# Altium integrated library TI Power Management Step-Down Regulator.IntLib: 531 symbols (part 13 of 32)
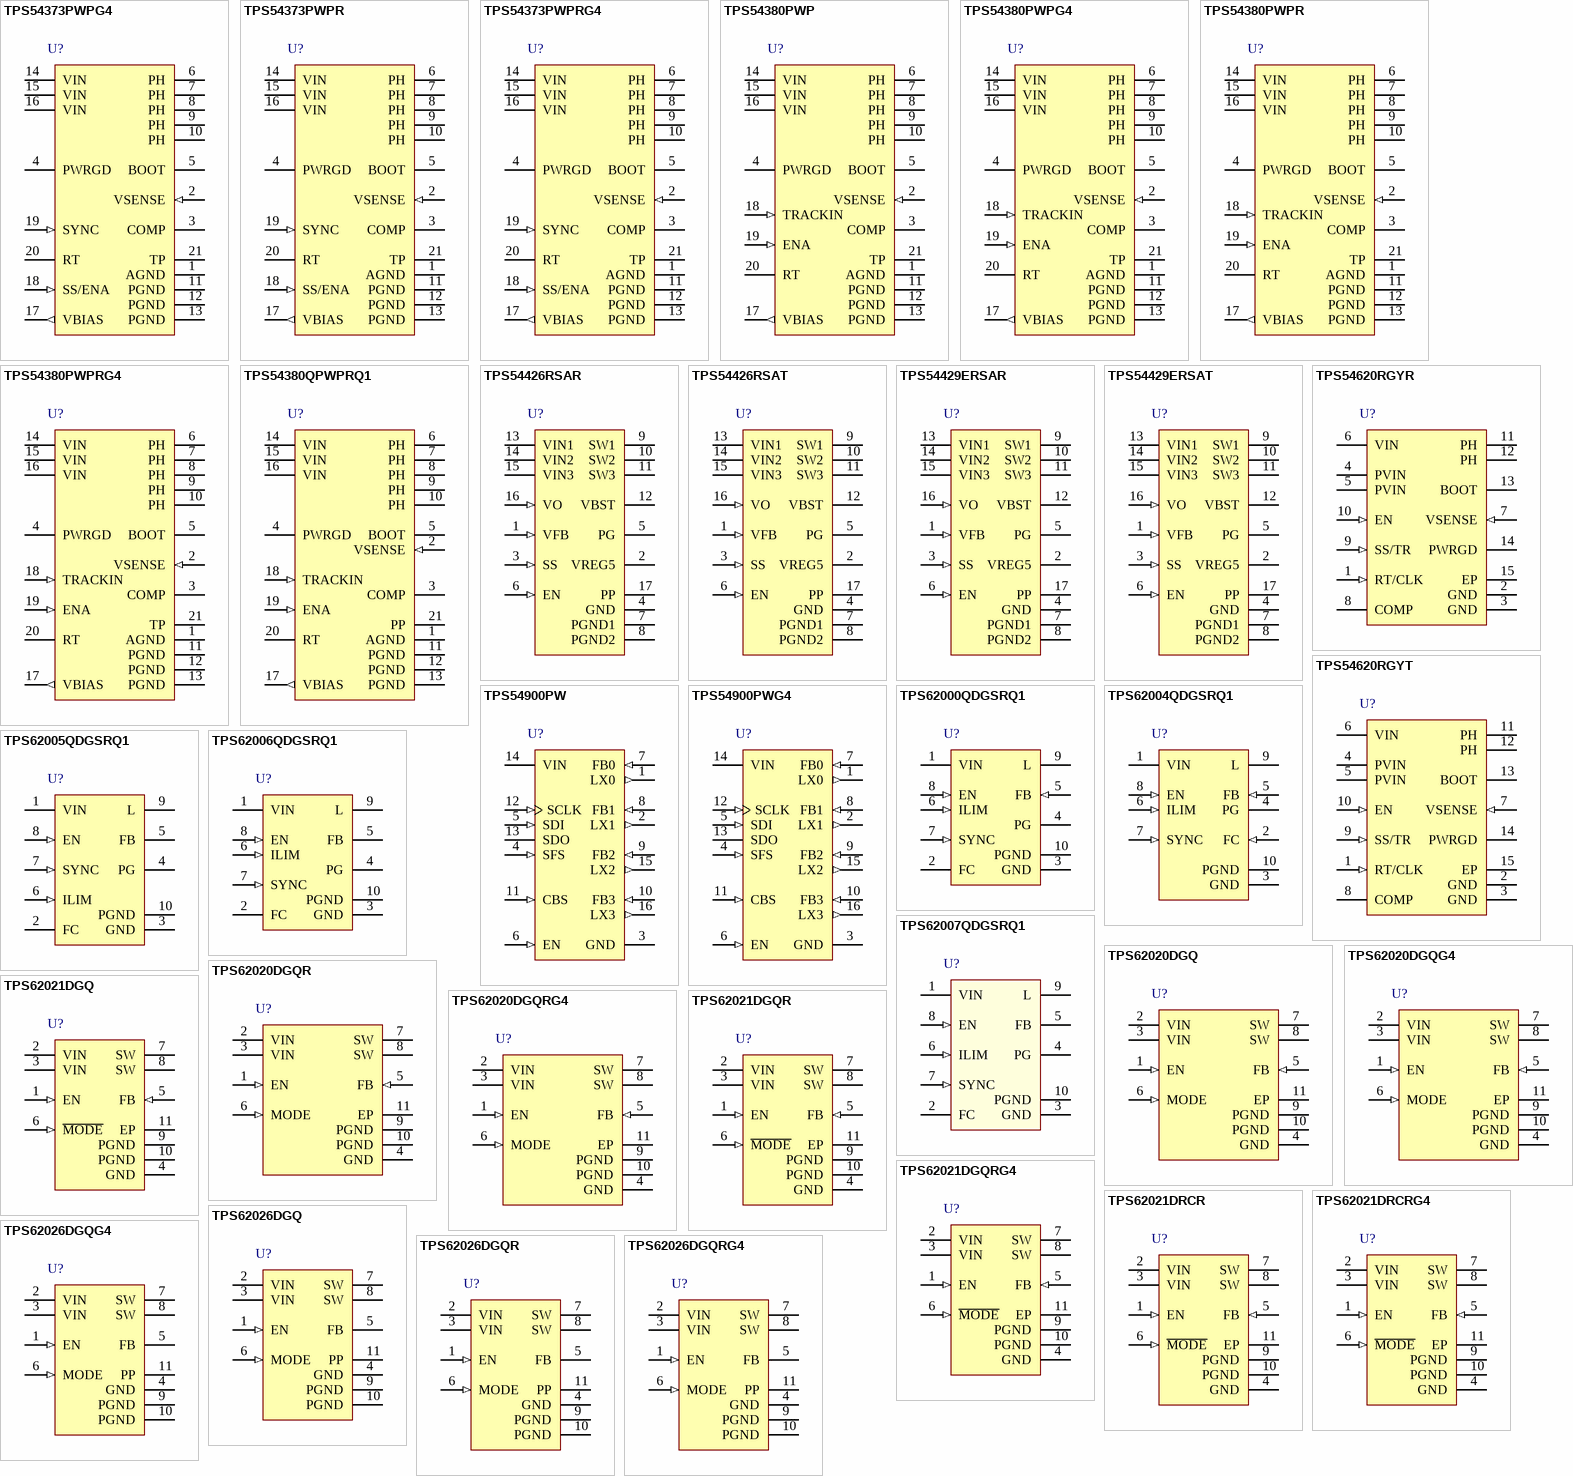
[diagram p30: symbols TPS54373PWPG4 to TPS62026DGQRG4]

## TPS62020DGQR
designator U?
Buck Adjustable Regulator with 2.5 to 6 V Input and 0.7 to 6 V Output, -40 to 85 degC, 10-Pin MSOP-PowerPAD (DGQ), Green (RoHS & no Sb/Br); PartNumber: TPS62020DGQR; Manufacturer: Texas Instruments; Duty Cycle(Max)(%): 100; Iout(Max)(A): 0.6; Iq(Typ)(mA): 0.018; Rating: Catalog; Regulated Outputs(#): 1; SubFamily: Step-Down Regulator; Switch Current Limit(Typ)(A): 1.15; Vin(Max)(V): 6; Vin(Min)(V): 2.5; Vout(Min)(V): 0.7; DatasheetVersion: SLVS076C; PackageVersion: revF, Nov-2011; PackageReference: DGQ10-1675X1445TP; PackageDescription: 10-Pin PowerPAD Plastic Small Outline 0.5 mm Pitch, Exposed Pad; Supplier 1: Arrow; Supplier Part Number 1: 39720110S7308815N7713; Supplier 2: Digi-Key; Supplier Part Number 2: 296-15250-2-ND; Supplier 3: Digi-Key; Supplier Part Number 3: 296-15250-1-ND; Supplier 4: Digi-Key; Supplier Part Number 4: 296-15250-6-ND; Supplier 5: Mouser; Supplier Part Number 5: 595-TPS62020DGQR; Eco-Plan: Green (RoHS & no Sb/Br); Topology: Buck; Vout(Max)(V): 6; Mounting Technology: Surface Mount; Code_JEDEC: MO-187-BA-T; ComponentLink1Description: Datasheet; ComponentLink1URL: http://www.ti.com/general/docs/lit/getliterature.tsp?genericPartNumber=TPS62020&fileType=pdf; ComponentLink2Description: URL Link1; ComponentLink2URL: Samples URL:http://www.ti.com/product/tps62020#samples
footprint DGQ10-1675X1445TP_N (TSSOP, 10-Leads, Body 3x3mm, Pitch 0.5mm, Thermal Pad 1.88x1.57mm, IPC Medium Density)
footprint DGQ10-1675X1445TP_L (TSSOP, 10-Leads, Body 3x3mm, Pitch 0.5mm, Thermal Pad 1.88x1.57mm, IPC High Density)
footprint DGQ10-1675X1445TP_M (TSSOP, 10-Leads, Body 3x3mm, Pitch 0.5mm, Thermal Pad 1.88x1.57mm, IPC Low Density)
pins: 1 EN (in) "Enable. Pulling EN to ground forces the device into shutdown mode. Pulling EN to VI enables the device. EN should not be left floating and must be terminated.", 2 VIN (power) "Supply voltage input", 3 VIN (power) "Supply voltage input", 4 GND (power) "Analog ground", 5 FB (in) "Feedback. Connect an external resistor divider to this pin. If a fixed-output-voltage device is ued, connect FB directly to the output.", 6 MODE (in) "The difference between TPS6202x and TPS62021 is the logic level of the MODE pin. The TPS62021 has an active-low MODE pin. The TPS6202x is forced into fixed-frequency PWM mode by pulling the MODE pin high. Pulling the MODE (See Datasheet)", 7 SW (power) "This is the switch pin of the converter and connected to the drain of the internal power MOSFETs", 8 SW (power) "This is the switch pin of the converter and connected to the drain of the internal power MOSFETs", 9 PGND (power) "Power ground", 10 PGND (power) "Power ground", 11 EP (power) "Exposed Thermal Pad"

## TPS62020DGQRG4
designator U?
Buck Adjustable Regulator with 2.5 to 6 V Input and 0.7 to 6 V Output, -40 to 85 degC, 10-Pin MSOP-PowerPAD (DGQ), Green (RoHS & no Sb/Br); PartNumber: TPS62020DGQRG4; Manufacturer: Texas Instruments; Duty Cycle(Max)(%): 100; Iout(Max)(A): 0.6; Iq(Typ)(mA): 0.018; Rating: Catalog; Regulated Outputs(#): 1; SubFamily: Step-Down Regulator; Switch Current Limit(Typ)(A): 1.15; Vin(Max)(V): 6; Vin(Min)(V): 2.5; Vout(Min)(V): 0.7; DatasheetVersion: SLVS076C; PackageVersion: revF, Nov-2011; PackageReference: DGQ10-1675X1445TP; PackageDescription: 10-Pin PowerPAD Plastic Small Outline 0.5 mm Pitch, Exposed Pad; Supplier 1: Digi-Key; Supplier Part Number 1: TPS62020DGQRG4-ND; Supplier 2: Newark; Supplier Part Number 2: 65J6916; Supplier 3: Mouser; Supplier Part Number 3: 595-TPS62020DGQRG4; Eco-Plan: Green (RoHS & no Sb/Br); Topology: Buck; Vout(Max)(V): 6; Mounting Technology: Surface Mount; Code_JEDEC: MO-187-BA-T; ComponentLink1Description: Datasheet; ComponentLink1URL: http://www.ti.com/general/docs/lit/getliterature.tsp?genericPartNumber=TPS62020&fileType=pdf; ComponentLink2Description: URL Link1; ComponentLink2URL: Samples URL:http://www.ti.com/product/tps62020#samples
footprint DGQ10-1675X1445TP_N (TSSOP, 10-Leads, Body 3x3mm, Pitch 0.5mm, Thermal Pad 1.88x1.57mm, IPC Medium Density)
footprint DGQ10-1675X1445TP_L (TSSOP, 10-Leads, Body 3x3mm, Pitch 0.5mm, Thermal Pad 1.88x1.57mm, IPC High Density)
footprint DGQ10-1675X1445TP_M (TSSOP, 10-Leads, Body 3x3mm, Pitch 0.5mm, Thermal Pad 1.88x1.57mm, IPC Low Density)
pins: 1 EN (in) "Enable. Pulling EN to ground forces the device into shutdown mode. Pulling EN to VI enables the device. EN should not be left floating and must be terminated.", 2 VIN (power) "Supply voltage input", 3 VIN (power) "Supply voltage input", 4 GND (power) "Analog ground", 5 FB (in) "Feedback. Connect an external resistor divider to this pin. If a fixed-output-voltage device is ued, connect FB directly to the output.", 6 MODE (in) "The difference between TPS6202x and TPS62021 is the logic level of the MODE pin. The TPS62021 has an active-low MODE pin. The TPS6202x is forced into fixed-frequency PWM mode by pulling the MODE pin high. Pulling the MODE (See Datasheet)", 7 SW (power) "This is the switch pin of the converter and connected to the drain of the internal power MOSFETs", 8 SW (power) "This is the switch pin of the converter and connected to the drain of the internal power MOSFETs", 9 PGND (power) "Power ground", 10 PGND (power) "Power ground", 11 EP (power) "Exposed Thermal Pad"

## TPS62021DGQ
designator U?
Buck Adjustable Regulator with 2.5 to 6 V Input and 0.7 to 6 V Output, -40 to 85 degC, 10-Pin MSOP-PowerPAD (DGQ); PartNumber: TPS62021DGQ; Manufacturer: Texas Instruments; Duty Cycle(Max)(%): 100; Iout(Max)(A): 0.6; Iq(Typ)(mA): 0.018; Rating: Catalog; Regulated Outputs(#): 1; SubFamily: Step-Down Regulator; Switch Current Limit(Typ)(A): 1.15; Synchronous Rectification: TRUE; Vin(Max)(V): 6; Vin(Min)(V): 2.5; Vout(Min)(V): 0.7; DatasheetVersion: SLVS076C; PackageVersion: revF, Nov-2011; PackageReference: DGQ10-1675X1445TP; PackageDescription: 10-Pin PowerPAD Plastic Small Outline 0.5 mm Pitch, Exposed Pad; Supplier 1: Mouser; Supplier Part Number 1: N/A; Topology: Buck; Vout(Max)(V): 6; Mounting Technology: Surface Mount; Code_JEDEC: MO-187-BA-T; ComponentLink1Description: Datasheet; ComponentLink1URL: http://www.ti.com/general/docs/lit/getliterature.tsp?genericPartNumber=TPS62021&fileType=pdf; ComponentLink2Description: URL Link1; ComponentLink2URL: Samples URL:http://www.ti.com/product/tps62021#samples
footprint DGQ10-1675X1445TP_N (TSSOP, 10-Leads, Body 3x3mm, Pitch 0.5mm, Thermal Pad 1.88x1.57mm, IPC Medium Density)
footprint DGQ10-1675X1445TP_L (TSSOP, 10-Leads, Body 3x3mm, Pitch 0.5mm, Thermal Pad 1.88x1.57mm, IPC High Density)
footprint DGQ10-1675X1445TP_M (TSSOP, 10-Leads, Body 3x3mm, Pitch 0.5mm, Thermal Pad 1.88x1.57mm, IPC Low Density)
pins: 1 EN (in) "Enable. Pulling EN to ground forces the device into shutdown mode. Pulling EN to VI enables the device. EN should not be left floating and must be terminated.", 2 VIN (power) "Supply voltage input", 3 VIN (power) "Supply voltage input", 4 GND (power) "Analog ground", 5 FB (in) "Feedback. Connect an external resistor divider to this pin.If a fixed-output-voltage device is ued, connect FB directly to the output.", 6 ~{MODE} (in) "The difference between TPS6202x and TPS62021 is the logic level of the MODE pin. The TPS62021 has an active-low M\O\D\E\ pin. The TPS6202x is forced into fixed-frequency PWM mode by pulling the MODE pin high.Pulling the MODE (See Datasheet)", 7 SW (power) "This is the switch pin of the converter and connected to the drain of the internal power MOSFETs", 8 SW (power) "This is the switch pin of the converter and connected to the drain of the internal power MOSFETs", 9 PGND (power) "Power ground", 10 PGND (power) "Power ground", 11 EP (power) "Exposed Thermal Pad"

## TPS62021DGQR
designator U?
Buck Adjustable Regulator with 2.5 to 6 V Input and 0.7 to 6 V Output, -40 to 85 degC, 10-Pin MSOP-PowerPAD (DGQ); PartNumber: TPS62021DGQR; Manufacturer: Texas Instruments; Duty Cycle(Max)(%): 100; Iout(Max)(A): 0.6; Iq(Typ)(mA): 0.018; Rating: Catalog; Regulated Outputs(#): 1; SubFamily: Step-Down Regulator; Switch Current Limit(Typ)(A): 1.15; Synchronous Rectification: TRUE; Vin(Max)(V): 6; Vin(Min)(V): 2.5; Vout(Min)(V): 0.7; DatasheetVersion: SLVS076C; PackageVersion: revF, Nov-2011; PackageReference: DGQ10-1675X1445TP; PackageDescription: 10-Pin PowerPAD Plastic Small Outline 0.5 mm Pitch, Exposed Pad; Supplier 1: Digi-Key; Supplier Part Number 1: 296-17179-2-ND; Supplier 2: Digi-Key; Supplier Part Number 2: 296-17179-1-ND; Supplier 3: Digi-Key; Supplier Part Number 3: 296-17179-6-ND; Supplier 4: Newark; Supplier Part Number 4: 21J9233; Supplier 5: Mouser; Supplier Part Number 5: 595-TPS62021DGQR; Topology: Buck; Vout(Max)(V): 6; Mounting Technology: Surface Mount; Code_JEDEC: MO-187-BA-T; ComponentLink1Description: Datasheet; ComponentLink1URL: http://www.ti.com/general/docs/lit/getliterature.tsp?genericPartNumber=TPS62021&fileType=pdf; ComponentLink2Description: URL Link1; ComponentLink2URL: Samples URL:http://www.ti.com/product/tps62021#samples
footprint DGQ10-1675X1445TP_N (TSSOP, 10-Leads, Body 3x3mm, Pitch 0.5mm, Thermal Pad 1.88x1.57mm, IPC Medium Density)
footprint DGQ10-1675X1445TP_L (TSSOP, 10-Leads, Body 3x3mm, Pitch 0.5mm, Thermal Pad 1.88x1.57mm, IPC High Density)
footprint DGQ10-1675X1445TP_M (TSSOP, 10-Leads, Body 3x3mm, Pitch 0.5mm, Thermal Pad 1.88x1.57mm, IPC Low Density)
pins: 1 EN (in) "Enable. Pulling EN to ground forces the device into shutdown mode. Pulling EN to VI enables the device. EN should not be left floating and must be terminated.", 2 VIN (power) "Supply voltage input", 3 VIN (power) "Supply voltage input", 4 GND (power) "Analog ground", 5 FB (in) "Feedback. Connect an external resistor divider to this pin.If a fixed-output-voltage device is ued, connect FB directly to the output.", 6 ~{MODE} (in) "The difference between TPS6202x and TPS62021 is the logic level of the MODE pin. The TPS62021 has an active-low M\O\D\E\ pin. The TPS6202x is forced into fixed-frequency PWM mode by pulling the MODE pin high.Pulling the MODE (See Datasheet)", 7 SW (power) "This is the switch pin of the converter and connected to the drain of the internal power MOSFETs", 8 SW (power) "This is the switch pin of the converter and connected to the drain of the internal power MOSFETs", 9 PGND (power) "Power ground", 10 PGND (power) "Power ground", 11 EP (power) "Exposed Thermal Pad"

## TPS62021DGQRG4
designator U?
Buck Adjustable Regulator with 2.5 to 6 V Input and 0.7 to 6 V Output, -40 to 85 degC, 10-Pin MSOP-PowerPAD (DGQ); PartNumber: TPS62021DGQRG4; Manufacturer: Texas Instruments; Duty Cycle(Max)(%): 100; Iout(Max)(A): 0.6; Iq(Typ)(mA): 0.018; Rating: Catalog; Regulated Outputs(#): 1; SubFamily: Step-Down Regulator; Switch Current Limit(Typ)(A): 1.15; Synchronous Rectification: TRUE; Vin(Max)(V): 6; Vin(Min)(V): 2.5; Vout(Min)(V): 0.7; DatasheetVersion: SLVS076C; PackageVersion: revF, Nov-2011; PackageReference: DGQ10-1675X1445TP; PackageDescription: 10-Pin PowerPAD Plastic Small Outline 0.5 mm Pitch, Exposed Pad; Supplier 1: Digi-Key; Supplier Part Number 1: TPS62021DGQRG4-ND; Supplier 2: Newark; Supplier Part Number 2: 99K4414; Supplier 3: Mouser; Supplier Part Number 3: 595-TPS62021DGQRG4; Topology: Buck; Vout(Max)(V): 6; Mounting Technology: Surface Mount; Code_JEDEC: MO-187-BA-T; ComponentLink1Description: Datasheet; ComponentLink1URL: http://www.ti.com/general/docs/lit/getliterature.tsp?genericPartNumber=TPS62021&fileType=pdf; ComponentLink2Description: URL Link1; ComponentLink2URL: Samples URL:http://www.ti.com/product/tps62021#samples
footprint DGQ10-1675X1445TP_N (TSSOP, 10-Leads, Body 3x3mm, Pitch 0.5mm, Thermal Pad 1.88x1.57mm, IPC Medium Density)
footprint DGQ10-1675X1445TP_L (TSSOP, 10-Leads, Body 3x3mm, Pitch 0.5mm, Thermal Pad 1.88x1.57mm, IPC High Density)
footprint DGQ10-1675X1445TP_M (TSSOP, 10-Leads, Body 3x3mm, Pitch 0.5mm, Thermal Pad 1.88x1.57mm, IPC Low Density)
pins: 1 EN (in) "Enable. Pulling EN to ground forces the device into shutdown mode. Pulling EN to VI enables the device. EN should not be left floating and must be terminated.", 2 VIN (power) "Supply voltage input", 3 VIN (power) "Supply voltage input", 4 GND (power) "Analog ground", 5 FB (in) "Feedback. Connect an external resistor divider to this pin.If a fixed-output-voltage device is ued, connect FB directly to the output.", 6 ~{MODE} (in) "The difference between TPS6202x and TPS62021 is the logic level of the MODE pin. The TPS62021 has an active-low M\O\D\E\ pin. The TPS6202x is forced into fixed-frequency PWM mode by pulling the MODE pin high.Pulling the MODE (See Datasheet)", 7 SW (power) "This is the switch pin of the converter and connected to the drain of the internal power MOSFETs", 8 SW (power) "This is the switch pin of the converter and connected to the drain of the internal power MOSFETs", 9 PGND (power) "Power ground", 10 PGND (power) "Power ground", 11 EP (power) "Exposed Thermal Pad"

## TPS62021DRCR
designator U?
Buck Adjustable Regulator with 2.5 to 6 V Input and 0.7 to 6 V Output, -40 to 85 degC, 10-Pin SON (DRC), Green (RoHS & no Sb/Br); PartNumber: TPS62021DRCR; Manufacturer: Texas Instruments; Duty Cycle(Max)(%): 100; Iout(Max)(A): 0.6; Iq(Typ)(mA): 0.018; Rating: Catalog; Regulated Outputs(#): 1; SubFamily: Step-Down Regulator; Switch Current Limit(Typ)(A): 1.15; Synchronous Rectification: TRUE; Vin(Max)(V): 6; Vin(Min)(V): 2.5; Vout(Min)(V): 0.7; DatasheetVersion: SLVS076C; PackageVersion: revL, Sep-2011; PackageReference: DRC10-2400X1650TP; PackageDescription: 10-Pin Plastic Small Outline No-Lead, 3 x 3 x 1 mm Body, 0.5 mm Pitch, Exposed Pad; Supplier 1: Digi-Key; Supplier Part Number 1: 296-17180-2-ND; Supplier 2: Digi-Key; Supplier Part Number 2: 296-17180-1-ND; Supplier 3: Digi-Key; Supplier Part Number 3: 296-17180-6-ND; Supplier 4: Newark; Supplier Part Number 4: 21J9234; Supplier 5: Mouser; Supplier Part Number 5: 595-TPS62021DRCR; Eco-Plan: Green (RoHS & no Sb/Br); Topology: Buck; Vout(Max)(V): 6; Mounting Technology: Surface Mount; ComponentLink1Description: Datasheet; ComponentLink1URL: http://www.ti.com/general/docs/lit/getliterature.tsp?genericPartNumber=TPS62021&fileType=pdf; ComponentLink2Description: URL Link1; ComponentLink2URL: Samples URL:http://www.ti.com/product/tps62021#samples
footprint DRC10-2400X1650TP (SON, 10-Leads, Body 3x3mm, Pitch 0.5mm, Thermal Pad 2.4x1.65mm, TI Recommended)
pins: 1 EN (in) "Enable. Pulling EN to ground forces the device into shutdown mode. Pulling EN to VI enables the device. EN should not be left floating and must be terminated.", 2 VIN (power) "Supply voltage input", 3 VIN (power) "Supply voltage input", 4 GND (power) "Analog ground", 5 FB (in) "Feedback. Connect an external resistor divider to this pin.If a fixed-output-voltage device is ued, connect FB directly to the output.", 6 ~{MODE} (in) "The difference between TPS6202x and TPS62021 is the logic level of the MODE pin. The TPS62021 has an active-low M\O\D\E\ pin. The TPS6202x is forced into fixed-frequency PWM mode by pulling the MODE pin high.Pulling the MODE (See Datasheet)", 7 SW (power) "This is the switch pin of the converter and connected to the drain of the internal power MOSFETs", 8 SW (power) "This is the switch pin of the converter and connected to the drain of the internal power MOSFETs", 9 PGND (power) "Power ground", 10 PGND (power) "Power ground", 11 EP (power) "Exposed Thermal Pad"

## TPS62021DRCRG4
designator U?
Buck Adjustable Regulator with 2.5 to 6 V Input and 0.7 to 6 V Output, -40 to 85 degC, 10-Pin SON (DRC), Green (RoHS & no Sb/Br); PartNumber: TPS62021DRCRG4; Manufacturer: Texas Instruments; Duty Cycle(Max)(%): 100; Iout(Max)(A): 0.6; Iq(Typ)(mA): 0.018; Rating: Catalog; Regulated Outputs(#): 1; SubFamily: Step-Down Regulator; Switch Current Limit(Typ)(A): 1.15; Synchronous Rectification: TRUE; Vin(Max)(V): 6; Vin(Min)(V): 2.5; Vout(Min)(V): 0.7; DatasheetVersion: SLVS076C; PackageVersion: revL, Sep-2011; PackageReference: DRC10-2400X1650TP; PackageDescription: 10-Pin Plastic Small Outline No-Lead, 3 x 3 x 1 mm Body, 0.5 mm Pitch, Exposed Pad; Supplier 1: Digi-Key; Supplier Part Number 1: TPS62021DRCRG4-ND; Supplier 2: Newark; Supplier Part Number 2: 71J8196; Supplier 3: Mouser; Supplier Part Number 3: 595-TPS62021DRCRG4; Eco-Plan: Green (RoHS & no Sb/Br); Topology: Buck; Vout(Max)(V): 6; Mounting Technology: Surface Mount; ComponentLink1Description: Datasheet; ComponentLink1URL: http://www.ti.com/general/docs/lit/getliterature.tsp?genericPartNumber=TPS62021&fileType=pdf; ComponentLink2Description: URL Link1; ComponentLink2URL: Samples URL:http://www.ti.com/product/tps54611#samples
footprint DRC10-2400X1650TP (SON, 10-Leads, Body 3x3mm, Pitch 0.5mm, Thermal Pad 2.4x1.65mm, TI Recommended)
pins: 1 EN (in) "Enable. Pulling EN to ground forces the device into shutdown mode. Pulling EN to VI enables the device. EN should not be left floating and must be terminated.", 2 VIN (power) "Supply voltage input", 3 VIN (power) "Supply voltage input", 4 GND (power) "Analog ground", 5 FB (in) "Feedback. Connect an external resistor divider to this pin.If a fixed-output-voltage device is ued, connect FB directly to the output.", 6 ~{MODE} (in) "The difference between TPS6202x and TPS62021 is the logic level of the MODE pin. The TPS62021 has an active-low M\O\D\E\ pin. The TPS6202x is forced into fixed-frequency PWM mode by pulling the MODE pin high.Pulling the MODE (See Datasheet)", 7 SW (power) "This is the switch pin of the converter and connected to the drain of the internal power MOSFETs", 8 SW (power) "This is the switch pin of the converter and connected to the drain of the internal power MOSFETs", 9 PGND (power) "Power ground", 10 PGND (power) "Power ground", 11 EP (power) "Exposed Thermal Pad"

## TPS62026DGQ
designator U?
Buck Step Down Regulator with 2.5 to 6 V Input and 3.3 V Output, -40 to 85 degC, 10-Pin MSOP-PowerPAD (DGQ), Green (RoHS & no Sb/Br); PartNumber: TPS62026DGQ; Manufacturer: Texas Instruments; Duty Cycle(Max)(%): 100; Iout(Max)(A): 0.6; Iq(Typ)(mA): 0.018; Preset Vout(V): 3.3; Rating: Catalog; Regulated Outputs(#): 1; SubFamily: Step-Down Regulator; Switch Current Limit(Typ)(A): 1.25; Synchronous Rectification: TRUE; Vin(Max)(V): 6; Vin(Min)(V): 2.5; DatasheetVersion: SLVS076C; PackageVersion: revF, Nov-2011; PackageReference: DGQ10-1675X1445TP; PackageDescription: 10-Pin PowerPAD Plastic Small Outline 0.5 mm Pitch, Exposed Pad; Supplier 1: Digi-Key; Supplier Part Number 1: 296-34633-5-ND; Supplier 2: Farnell; Supplier Part Number 2: 1412545; Supplier 3: Newark; Supplier Part Number 3: 73J8387; Supplier 4: Mouser; Supplier Part Number 4: 595-TPS62026DGQ; Eco-Plan: Green (RoHS & no Sb/Br); Topology: Buck; Vout(Max)(V): 3.3; Vout(Min)(V): 3.3; Mounting Technology: Surface Mount; Code_JEDEC: MO-187-BA-T; ComponentLink1Description: Datasheet; ComponentLink1URL: http://www.ti.com/general/docs/lit/getliterature.tsp?genericPartNumber=TPS62026&fileType=pdf; ComponentLink2Description: URL Link1; ComponentLink2URL: Samples URL:http://www.ti.com/product/tps62026#samples
footprint DGQ10-1675X1445TP_N (TSSOP, 10-Leads, Body 3x3mm, Pitch 0.5mm, Thermal Pad 1.88x1.57mm, IPC Medium Density)
footprint DGQ10-1675X1445TP_L (TSSOP, 10-Leads, Body 3x3mm, Pitch 0.5mm, Thermal Pad 1.88x1.57mm, IPC High Density)
footprint DGQ10-1675X1445TP_M (TSSOP, 10-Leads, Body 3x3mm, Pitch 0.5mm, Thermal Pad 1.88x1.57mm, IPC Low Density)
pins: 1 EN (in) "Enable. Pulling EN to ground forces the device into shutdown mode. Pulling EN to VI enables the device. EN should not be left floating and must be terminated.", 2 VIN (power) "Supply voltage input", 3 VIN (power) "Supply voltage input", 4 GND (power) "Analog ground", 5 FB "Feedback. Connect an external resistor divider to this pin. If a fixed-output-voltage device is ued, connect FB directly to the output.", 6 MODE (in) "The difference between TPS6202x and TPS62021 is the logic level of the MODE pin. The TPS62021 has an active-low MODE pin. The TPS6202x is forced into fixed-frequency PWM mode by pulling the MODE pin high. Pulling the MODE (See Datasheet)", 7 SW (power) "This is the switch pin of the converter and connected to the drain of the internal power MOSFETs", 8 SW (power) "This is the switch pin of the converter and connected to the drain of the internal power MOSFETs", 9 PGND (power) "Power ground", 10 PGND (power) "Power ground", 11 PP (power) "Exposed Thermal Pad"

## TPS62026DGQG4
designator U?
Buck Step Down Regulator with 2.5 to 6 V Input and 3.3 V Output, -40 to 85 degC, 10-Pin MSOP-PowerPAD (DGQ), Green (RoHS & no Sb/Br); PartNumber: TPS62026DGQG4; Manufacturer: Texas Instruments; Duty Cycle(Max)(%): 100; Iout(Max)(A): 0.6; Iq(Typ)(mA): 0.018; Preset Vout(V): 3.3; Rating: Catalog; Regulated Outputs(#): 1; SubFamily: Step-Down Regulator; Switch Current Limit(Typ)(A): 1.25; Synchronous Rectification: TRUE; Vin(Max)(V): 6; Vin(Min)(V): 2.5; DatasheetVersion: SLVS076C; PackageVersion: revF, Nov-2011; PackageReference: DGQ10-1675X1445TP; PackageDescription: 10-Pin PowerPAD Plastic Small Outline 0.5 mm Pitch, Exposed Pad; Supplier 1: Digi-Key; Supplier Part Number 1: TPS62026DGQG4-ND; Supplier 2: Newark; Supplier Part Number 2: 24K6032; Supplier 3: Mouser; Supplier Part Number 3: 595-TPS62026DGQG4; Eco-Plan: Green (RoHS & no Sb/Br); Topology: Buck; Vout(Max)(V): 3.3; Vout(Min)(V): 3.3; Mounting Technology: Surface Mount; Code_JEDEC: MO-187-BA-T; ComponentLink1Description: Datasheet; ComponentLink1URL: http://www.ti.com/general/docs/lit/getliterature.tsp?genericPartNumber=TPS62026&fileType=pdf; ComponentLink2Description: URL Link1; ComponentLink2URL: Samples URL:http://www.ti.com/product/tps62026#samples
footprint DGQ10-1675X1445TP_N (TSSOP, 10-Leads, Body 3x3mm, Pitch 0.5mm, Thermal Pad 1.88x1.57mm, IPC Medium Density)
footprint DGQ10-1675X1445TP_L (TSSOP, 10-Leads, Body 3x3mm, Pitch 0.5mm, Thermal Pad 1.88x1.57mm, IPC High Density)
footprint DGQ10-1675X1445TP_M (TSSOP, 10-Leads, Body 3x3mm, Pitch 0.5mm, Thermal Pad 1.88x1.57mm, IPC Low Density)
pins: 1 EN (in) "Enable. Pulling EN to ground forces the device into shutdown mode. Pulling EN to VI enables the device. EN should not be left floating and must be terminated.", 2 VIN (power) "Supply voltage input", 3 VIN (power) "Supply voltage input", 4 GND (power) "Analog ground", 5 FB "Feedback. Connect an external resistor divider to this pin. If a fixed-output-voltage device is ued, connect FB directly to the output.", 6 MODE (in) "The difference between TPS6202x and TPS62021 is the logic level of the MODE pin. The TPS62021 has an active-low MODE pin. The TPS6202x is forced into fixed-frequency PWM mode by pulling the MODE pin high. Pulling the MODE (See Datasheet)", 7 SW (power) "This is the switch pin of the converter and connected to the drain of the internal power MOSFETs", 8 SW (power) "This is the switch pin of the converter and connected to the drain of the internal power MOSFETs", 9 PGND (power) "Power ground", 10 PGND (power) "Power ground", 11 PP (power) "Exposed Thermal Pad"

## TPS62026DGQR
designator U?
Buck Step Down Regulator with 2.5 to 6 V Input and 3.3 V Output, -40 to 85 degC, 10-Pin MSOP-PowerPAD (DGQ), Green (RoHS & no Sb/Br); PartNumber: TPS62026DGQR; Manufacturer: Texas Instruments; Duty Cycle(Max)(%): 100; Iout(Max)(A): 0.6; Iq(Typ)(mA): 0.018; Preset Vout(V): 3.3; Rating: Catalog; Regulated Outputs(#): 1; SubFamily: Step-Down Regulator; Switch Current Limit(Typ)(A): 1.25; Synchronous Rectification: TRUE; Vin(Max)(V): 6; Vin(Min)(V): 2.5; DatasheetVersion: SLVS076C; PackageVersion: revF, Nov-2011; PackageReference: DGQ10-1675X1445TP; PackageDescription: 10-Pin PowerPAD Plastic Small Outline 0.5 mm Pitch, Exposed Pad; Supplier 1: Digi-Key; Supplier Part Number 1: 296-17693-2-ND; Supplier 2: Digi-Key; Supplier Part Number 2: 296-17693-1-ND; Supplier 3: Digi-Key; Supplier Part Number 3: 296-17693-6-ND; Supplier 4: Newark; Supplier Part Number 4: 73J8388; Supplier 5: Mouser; Supplier Part Number 5: 595-TPS62026DGQR; Eco-Plan: Green (RoHS & no Sb/Br); Topology: Buck; Vout(Max)(V): 3.3; Vout(Min)(V): 3.3; Mounting Technology: Surface Mount; Code_JEDEC: MO-187-BA-T; ComponentLink1Description: Datasheet; ComponentLink1URL: http://www.ti.com/general/docs/lit/getliterature.tsp?genericPartNumber=TPS62026&fileType=pdf; ComponentLink2Description: URL Link1; ComponentLink2URL: Samples URL:http://www.ti.com/product/tps62026#samples
footprint DGQ10-1675X1445TP_N (TSSOP, 10-Leads, Body 3x3mm, Pitch 0.5mm, Thermal Pad 1.88x1.57mm, IPC Medium Density)
footprint DGQ10-1675X1445TP_L (TSSOP, 10-Leads, Body 3x3mm, Pitch 0.5mm, Thermal Pad 1.88x1.57mm, IPC High Density)
footprint DGQ10-1675X1445TP_M (TSSOP, 10-Leads, Body 3x3mm, Pitch 0.5mm, Thermal Pad 1.88x1.57mm, IPC Low Density)
pins: 1 EN (in) "Enable. Pulling EN to ground forces the device into shutdown mode. Pulling EN to VI enables the device. EN should not be left floating and must be terminated.", 2 VIN (power) "Supply voltage input", 3 VIN (power) "Supply voltage input", 4 GND (power) "Analog ground", 5 FB "Feedback. Connect an external resistor divider to this pin. If a fixed-output-voltage device is ued, connect FB directly to the output.", 6 MODE (in) "The difference between TPS6202x and TPS62021 is the logic level of the MODE pin. The TPS62021 has an active-low MODE pin. The TPS6202x is forced into fixed-frequency PWM mode by pulling the MODE pin high. Pulling the MODE (See Datasheet)", 7 SW (power) "This is the switch pin of the converter and connected to the drain of the internal power MOSFETs", 8 SW (power) "This is the switch pin of the converter and connected to the drain of the internal power MOSFETs", 9 PGND (power) "Power ground", 10 PGND (power) "Power ground", 11 PP (power) "Exposed Thermal Pad"

## TPS62026DGQRG4
designator U?
Buck Step Down Regulator with 2.5 to 6 V Input and 3.3 V Output, -40 to 85 degC, 10-Pin MSOP-PowerPAD (DGQ), Green (RoHS & no Sb/Br); PartNumber: TPS62026DGQRG4; Manufacturer: Texas Instruments; Duty Cycle(Max)(%): 100; Iout(Max)(A): 0.6; Iq(Typ)(mA): 0.018; Preset Vout(V): 3.3; Rating: Catalog; Regulated Outputs(#): 1; SubFamily: Step-Down Regulator; Switch Current Limit(Typ)(A): 1.25; Synchronous Rectification: TRUE; Vin(Max)(V): 6; Vin(Min)(V): 2.5; DatasheetVersion: SLVS076C; PackageVersion: revF, Nov-2011; PackageReference: DGQ10-1675X1445TP; PackageDescription: 10-Pin PowerPAD Plastic Small Outline 0.5 mm Pitch, Exposed Pad; Supplier 1: Digi-Key; Supplier Part Number 1: TPS62026DGQRG4-ND; Supplier 2: Newark; Supplier Part Number 2: 24K6033; Supplier 3: Mouser; Supplier Part Number 3: 595-TPS62026DGQRG4; Eco-Plan: Green (RoHS & no Sb/Br); Topology: Buck; Vout(Max)(V): 3.3; Vout(Min)(V): 3.3; Mounting Technology: Surface Mount; Code_JEDEC: MO-187-BA-T; ComponentLink1Description: Datasheet; ComponentLink1URL: http://www.ti.com/general/docs/lit/getliterature.tsp?genericPartNumber=TPS62026&fileType=pdf; ComponentLink2Description: URL Link1; ComponentLink2URL: Samples URL:http://www.ti.com/product/tps62026#samples
footprint DGQ10-1675X1445TP_N (TSSOP, 10-Leads, Body 3x3mm, Pitch 0.5mm, Thermal Pad 1.88x1.57mm, IPC Medium Density)
footprint DGQ10-1675X1445TP_L (TSSOP, 10-Leads, Body 3x3mm, Pitch 0.5mm, Thermal Pad 1.88x1.57mm, IPC High Density)
footprint DGQ10-1675X1445TP_M (TSSOP, 10-Leads, Body 3x3mm, Pitch 0.5mm, Thermal Pad 1.88x1.57mm, IPC Low Density)
pins: 1 EN (in) "Enable. Pulling EN to ground forces the device into shutdown mode. Pulling EN to VI enables the device. EN should not be left floating and must be terminated.", 2 VIN (power) "Supply voltage input", 3 VIN (power) "Supply voltage input", 4 GND (power) "Analog ground", 5 FB "Feedback. Connect an external resistor divider to this pin. If a fixed-output-voltage device is ued, connect FB directly to the output.", 6 MODE (in) "The difference between TPS6202x and TPS62021 is the logic level of the MODE pin. The TPS62021 has an active-low MODE pin. The TPS6202x is forced into fixed-frequency PWM mode by pulling the MODE pin high. Pulling the MODE (See Datasheet)", 7 SW (power) "This is the switch pin of the converter and connected to the drain of the internal power MOSFETs", 8 SW (power) "This is the switch pin of the converter and connected to the drain of the internal power MOSFETs", 9 PGND (power) "Power ground", 10 PGND (power) "Power ground", 11 PP (power) "Exposed Thermal Pad"

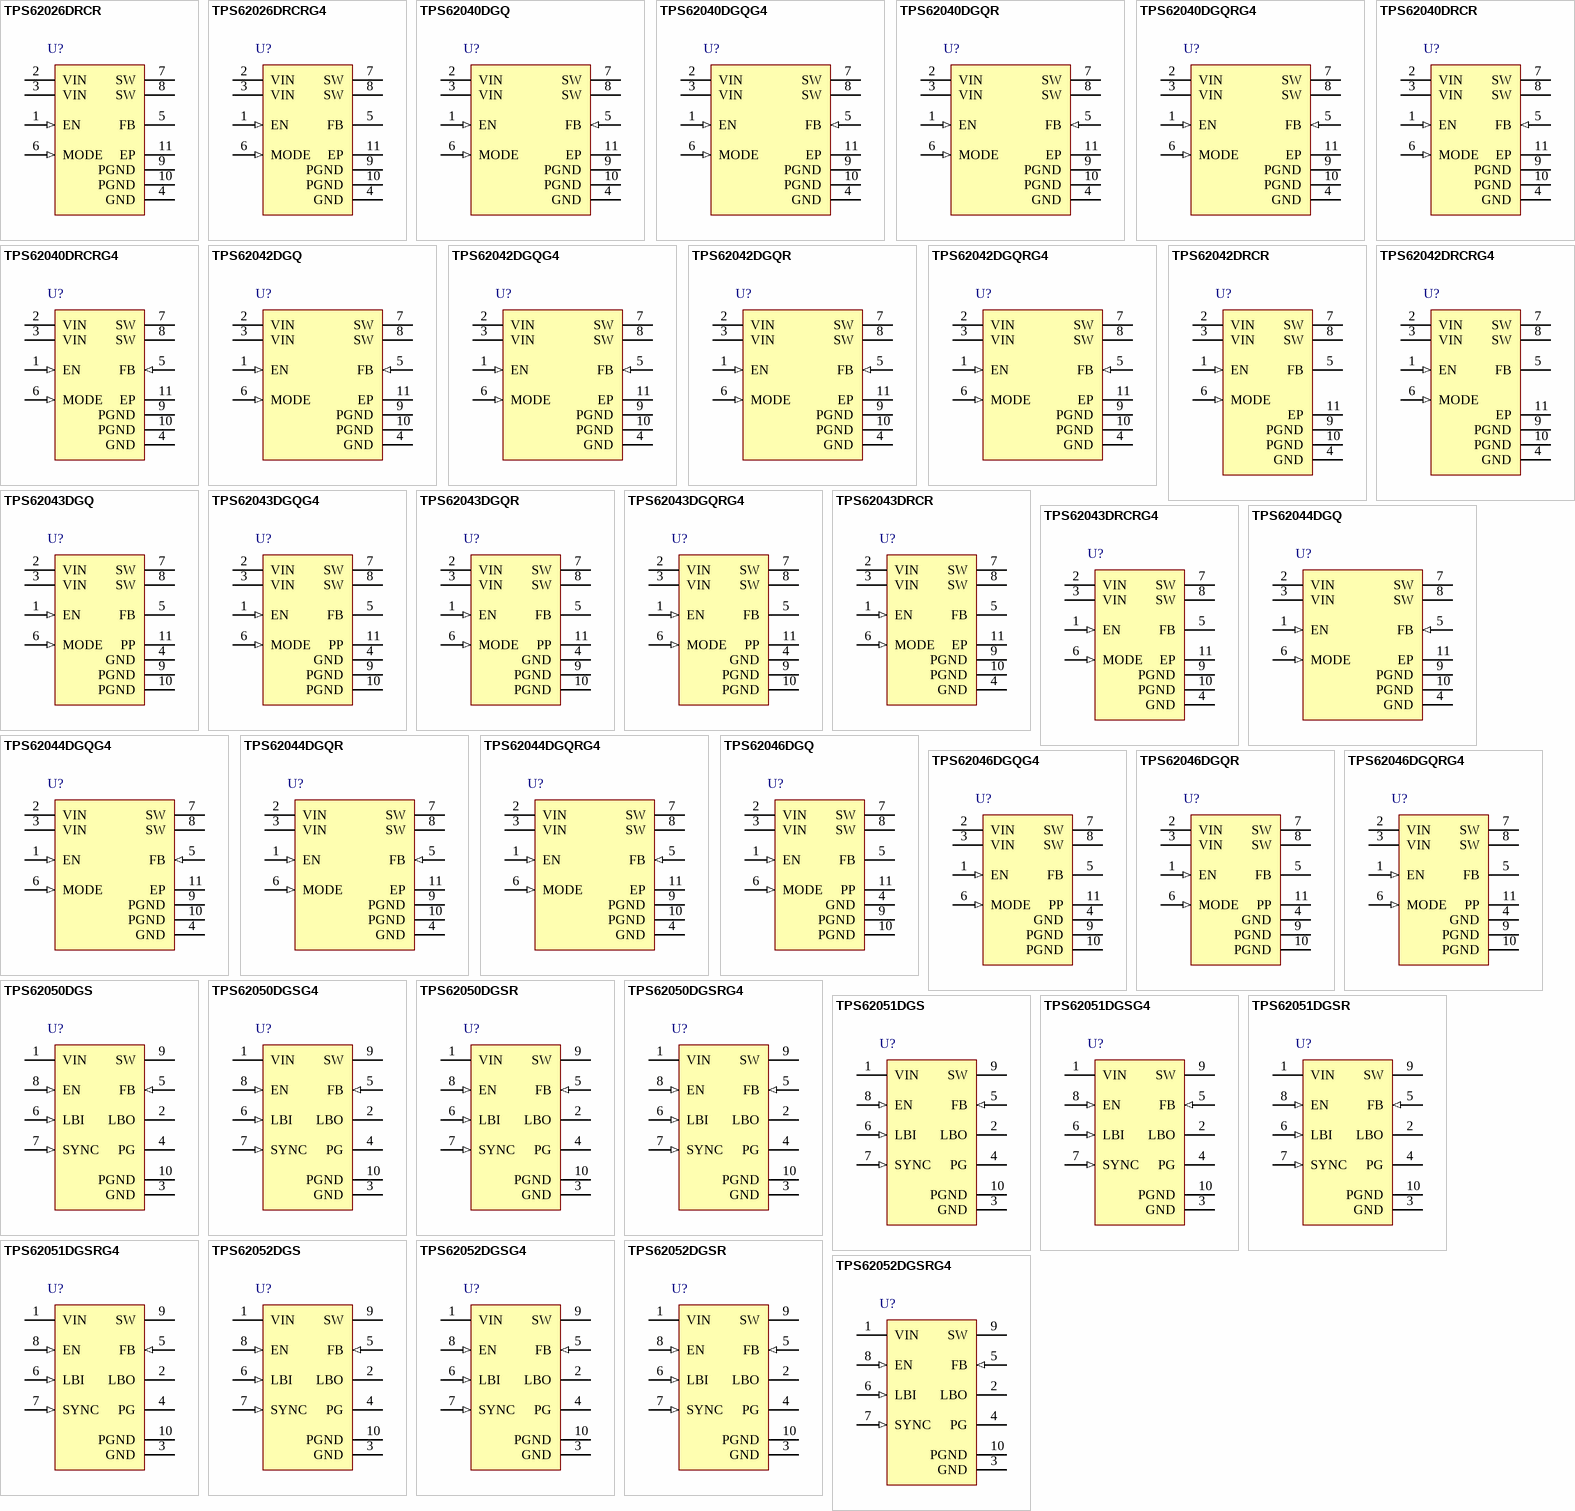
[diagram p7: symbols TPS62026DRCR to TPS62052DGSRG4]

## TPS62026DRCR
designator U?
Buck Step Down Regulator with 2.5 to 6 V Input and 3.3 V Output, -40 to 85 degC, 10-Pin SON (DRC), Green (RoHS & no Sb/Br); PartNumber: TPS62026DRCR; Manufacturer: Texas Instruments; Duty Cycle(Max)(%): 100; Iout(Max)(A): 0.6; Iq(Typ)(mA): 0.018; Preset Vout(V): 3.3; Rating: Catalog; Regulated Outputs(#): 1; SubFamily: Step-Down Regulator; Switch Current Limit(Typ)(A): 1.25; Synchronous Rectification: TRUE; Vin(Max)(V): 6; Vin(Min)(V): 2.5; DatasheetVersion: SLVS076C; PackageVersion: revL, Sep-2011; PackageReference: DRC10-2400X1650TP; PackageDescription: 10-Pin Plastic Small Outline No-Lead, 3 x 3 x 1 mm Body, 0.5 mm Pitch, Exposed Pad; Supplier 1: Digi-Key; Supplier Part Number 1: 296-17694-2-ND; Supplier 2: Digi-Key; Supplier Part Number 2: 296-17694-1-ND; Supplier 3: Digi-Key; Supplier Part Number 3: 296-17694-6-ND; Supplier 4: Mouser; Supplier Part Number 4: 595-TPS62026DRCR; Eco-Plan: Green (RoHS & no Sb/Br); Topology: Buck; Vout(Max)(V): 3.3; Vout(Min)(V): 3.3; Mounting Technology: Surface Mount; ComponentLink1Description: Datasheet; ComponentLink1URL: http://www.ti.com/general/docs/lit/getliterature.tsp?genericPartNumber=TPS62026&fileType=pdf; ComponentLink2Description: URL Link1; ComponentLink2URL: Samples URL:http://www.ti.com/product/tps62026#samples
footprint DRC10-2400X1650TP (SON, 10-Leads, Body 3x3mm, Pitch 0.5mm, Thermal Pad 2.4x1.65mm, TI Recommended)
pins: 1 EN (in) "Enable. Pulling EN to ground forces the device into shutdown mode. Pulling EN to VI enables the device. EN should not be left floating and must be terminated.", 2 VIN (power) "Supply voltage input.", 3 VIN (power) "Supply voltage input.", 4 GND (power) "Analog ground.", 5 FB "Feedback. Connect an external resistor divider to this pin. If a fixed-output-voltage device is ued, connect FB directly to the output.", 6 MODE (in) "The difference between TPS6202x and TPS62021 is the logic level of the MODE pin. The TPS62021 has an active-low MODE pin. The TPS6202x is forced into fixed-frequency PWM mode by pulling the MODE pin high. Pulling the MODE (See Datasheet)", 7 SW (power) "This is the switch pin of the converter and connected to the drain of the internal power MOSFETs.", 8 SW (power) "This is the switch pin of the converter and connected to the drain of the internal power MOSFETs.", 9 PGND (power) "Power ground.", 10 PGND (power) "Power ground.", 11 EP "The PowerPAD must be connected to GND."

## TPS62026DRCRG4
designator U?
Buck Step Down Regulator with 2.5 to 6 V Input and 3.3 V Output, -40 to 85 degC, 10-Pin SON (DRC), Green (RoHS & no Sb/Br); PartNumber: TPS62026DRCRG4; Manufacturer: Texas Instruments; Duty Cycle(Max)(%): 90; Iout(Max)(A): 0.6; Iq(Typ)(mA): 0.018; Preset Vout(V): 3.3; Rating: Catalog; Regulated Outputs(#): 1; SubFamily: Step-Down Regulator; Switch Current Limit(Typ)(A): 1.25; Synchronous Rectification: TRUE; Vin(Max)(V): 6; Vin(Min)(V): 2.5; DatasheetVersion: SLVS076C; PackageVersion: revL, Sep-2011; PackageReference: DRC10-2400X1650TP; PackageDescription: 10-Pin Plastic Small Outline No-Lead, 3 x 3 x 1 mm Body, 0.5 mm Pitch, Exposed Pad; Supplier 1: Digi-Key; Supplier Part Number 1: TPS62026DRCRG4-ND; Supplier 2: Mouser; Supplier Part Number 2: 595-TPS62026DRCRG4; Eco-Plan: Green (RoHS & no Sb/Br); Topology: Buck; Vout(Max)(V): 3.3; Vout(Min)(V): 3.3; Mounting Technology: Surface Mount; ComponentLink1Description: Datasheet; ComponentLink1URL: http://www.ti.com/general/docs/lit/getliterature.tsp?genericPartNumber=TPS62026&fileType=pdf; ComponentLink2Description: URL Link1; ComponentLink2URL: Samples URL:http://www.ti.com/product/tps54611#samples
footprint DRC10-2400X1650TP (SON, 10-Leads, Body 3x3mm, Pitch 0.5mm, Thermal Pad 2.4x1.65mm, TI Recommended)
pins: 1 EN (in) "Enable. Pulling EN to ground forces the device into shutdown mode. Pulling EN to VI enables the device. EN should not be left floating and must be terminated.", 2 VIN (power) "Supply voltage input.", 3 VIN (power) "Supply voltage input.", 4 GND (power) "Analog ground.", 5 FB "Feedback. Connect an external resistor divider to this pin. If a fixed-output-voltage device is ued, connect FB directly to the output.", 6 MODE (in) "The difference between TPS6202x and TPS62021 is the logic level of the MODE pin. The TPS62021 has an active-low MODE pin. The TPS6202x is forced into fixed-frequency PWM mode by pulling the MODE pin high. Pulling the MODE (See Datasheet)", 7 SW (power) "This is the switch pin of the converter and connected to the drain of the internal power MOSFETs.", 8 SW (power) "This is the switch pin of the converter and connected to the drain of the internal power MOSFETs.", 9 PGND (power) "Power ground.", 10 PGND (power) "Power ground.", 11 EP "The PowerPAD must be connected to GND."

## TPS62040DGQ
designator U?
Buck Adjustable Regulator with 2.5 to 6 V Input and 0.7 to 6 V Output, -40 to 85 degC, 10-Pin MSOP-PowerPAD (DGQ), Green (RoHS & no Sb/Br); PartNumber: TPS62040DGQ; Manufacturer: Texas Instruments; Duty Cycle(Max)(%): 100; Iout(Max)(A): 1.2; Iq(Typ)(mA): 0.018; Rating: Catalog; Regulated Outputs(#): 1; SubFamily: Step-Down Regulator; Switch Current Limit(Typ)(A): 2; Vin(Max)(V): 6; Vin(Min)(V): 2.5; Vout(Min)(V): 0.7; DatasheetVersion: SLVS463B; PackageVersion: revF, Nov-2011; PackageReference: DGQ10-1675X1445TP; PackageDescription: 10-Pin PowerPAD Plastic Small Outline 0.5 mm Pitch, Exposed Pad; Supplier 1: Digi-Key; Supplier Part Number 1: 296-34634-5-ND; Supplier 2: Farnell; Supplier Part Number 2: 8457913; Supplier 3: Newark; Supplier Part Number 3: 73H4657; Supplier 4: Mouser; Supplier Part Number 4: 595-TPS62040DGQ; Eco-Plan: Green (RoHS & no Sb/Br); Topology: Buck; Vout(Max)(V): 6; Mounting Technology: Surface Mount; Code_JEDEC: MO-187-BA-T; ComponentLink1Description: Datasheet; ComponentLink1URL: http://www.ti.com/general/docs/lit/getliterature.tsp?genericPartNumber=TPS62040&fileType=pdf; ComponentLink2Description: URL Link1; ComponentLink2URL: Samples URL:http://www.ti.com/product/tps62040#samples
footprint DGQ10-1675X1445TP_N (TSSOP, 10-Leads, Body 3x3mm, Pitch 0.5mm, Thermal Pad 1.88x1.57mm, IPC Medium Density)
footprint DGQ10-1675X1445TP_L (TSSOP, 10-Leads, Body 3x3mm, Pitch 0.5mm, Thermal Pad 1.88x1.57mm, IPC High Density)
footprint DGQ10-1675X1445TP_M (TSSOP, 10-Leads, Body 3x3mm, Pitch 0.5mm, Thermal Pad 1.88x1.57mm, IPC Low Density)
pins: 1 EN (in) "Enable. Pulling EN to ground forces the device into shutdown mode. Pulling EN to VI enables the device. EN should not be left floating and must be terminated.", 2 VIN (power) "Supply voltage input", 3 VIN (power) "Supply voltage input", 4 GND (power) "Analog ground", 5 FB (in) "Feedback. Connect an external resistor divider to this pin. If a fixed-output-voltage device is ued, connect FB directly to the output.", 6 MODE (in) "The difference between TPS6202x and TPS62021 is the logic level of the MODE pin. The TPS62021 has an active-low MODE pin. The TPS6202x is forced into fixed-frequency PWM mode by pulling the MODE pin high. Pulling the MODE (See Datasheet)", 7 SW (power) "This is the switch pin of the converter and connected to the drain of the internal power MOSFETs", 8 SW (power) "This is the switch pin of the converter and connected to the drain of the internal power MOSFETs", 9 PGND (power) "Power ground", 10 PGND (power) "Power ground", 11 EP (power) "Exposed Thermal Pad"

## TPS62040DGQG4
designator U?
Buck Adjustable Regulator with 2.5 to 6 V Input and 0.7 to 6 V Output, -40 to 85 degC, 10-Pin MSOP-PowerPAD (DGQ), Green (RoHS & no Sb/Br); PartNumber: TPS62040DGQG4; Manufacturer: Texas Instruments; Duty Cycle(Max)(%): 100; Iout(Max)(A): 1.2; Iq(Typ)(mA): 0.018; Rating: Catalog; Regulated Outputs(#): 1; SubFamily: Step-Down Regulator; Switch Current Limit(Typ)(A): 2; Vin(Max)(V): 6; Vin(Min)(V): 2.5; Vout(Min)(V): 0.7; DatasheetVersion: SLVS463B; PackageVersion: revF, Nov-2011; PackageReference: DGQ10-1675X1445TP; PackageDescription: 10-Pin PowerPAD Plastic Small Outline 0.5 mm Pitch, Exposed Pad; Supplier 1: Digi-Key; Supplier Part Number 1: TPS62040DGQG4-ND; Supplier 2: Newark; Supplier Part Number 2: 33K7641; Supplier 3: Mouser; Supplier Part Number 3: 595-TPS62040DGQG4; Eco-Plan: Green (RoHS & no Sb/Br); Topology: Buck; Vout(Max)(V): 6; Mounting Technology: Surface Mount; Code_JEDEC: MO-187-BA-T; ComponentLink1Description: Datasheet; ComponentLink1URL: http://www.ti.com/general/docs/lit/getliterature.tsp?genericPartNumber=TPS62040&fileType=pdf; ComponentLink2Description: URL Link1; ComponentLink2URL: Samples URL:http://www.ti.com/product/tps62040#samples
footprint DGQ10-1675X1445TP_N (TSSOP, 10-Leads, Body 3x3mm, Pitch 0.5mm, Thermal Pad 1.88x1.57mm, IPC Medium Density)
footprint DGQ10-1675X1445TP_L (TSSOP, 10-Leads, Body 3x3mm, Pitch 0.5mm, Thermal Pad 1.88x1.57mm, IPC High Density)
footprint DGQ10-1675X1445TP_M (TSSOP, 10-Leads, Body 3x3mm, Pitch 0.5mm, Thermal Pad 1.88x1.57mm, IPC Low Density)
pins: 1 EN (in) "Enable. Pulling EN to ground forces the device into shutdown mode. Pulling EN to VI enables the device. EN should not be left floating and must be terminated.", 2 VIN (power) "Supply voltage input", 3 VIN (power) "Supply voltage input", 4 GND (power) "Analog ground", 5 FB (in) "Feedback. Connect an external resistor divider to this pin. If a fixed-output-voltage device is ued, connect FB directly to the output.", 6 MODE (in) "The difference between TPS6202x and TPS62021 is the logic level of the MODE pin. The TPS62021 has an active-low MODE pin. The TPS6202x is forced into fixed-frequency PWM mode by pulling the MODE pin high. Pulling the MODE (See Datasheet)", 7 SW (power) "This is the switch pin of the converter and connected to the drain of the internal power MOSFETs", 8 SW (power) "This is the switch pin of the converter and connected to the drain of the internal power MOSFETs", 9 PGND (power) "Power ground", 10 PGND (power) "Power ground", 11 EP (power) "Exposed Thermal Pad"

## TPS62040DGQR
designator U?
Buck Adjustable Regulator with 2.5 to 6 V Input and 0.7 to 6 V Output, -40 to 85 degC, 10-Pin MSOP-PowerPAD (DGQ), Green (RoHS & no Sb/Br); PartNumber: TPS62040DGQR; Manufacturer: Texas Instruments; Duty Cycle(Max)(%): 100; Iout(Max)(A): 1.2; Iq(Typ)(mA): 0.018; Rating: Catalog; Regulated Outputs(#): 1; SubFamily: Step-Down Regulator; Switch Current Limit(Typ)(A): 2; Vin(Max)(V): 6; Vin(Min)(V): 2.5; Vout(Min)(V): 0.7; DatasheetVersion: SLVS463B; PackageVersion: revF, Nov-2011; PackageReference: DGQ10-1675X1445TP; PackageDescription: 10-Pin PowerPAD Plastic Small Outline 0.5 mm Pitch, Exposed Pad; Supplier 1: Digi-Key; Supplier Part Number 1: 296-15219-2-ND; Supplier 2: Digi-Key; Supplier Part Number 2: 296-15219-1-ND; Supplier 3: Digi-Key; Supplier Part Number 3: 296-15219-6-ND; Supplier 4: Farnell; Supplier Part Number 4: 1575368; Supplier 5: Newark; Supplier Part Number 5: 73H4658; Supplier 6: Mouser; Supplier Part Number 6: 595-TPS62040DGQR; Eco-Plan: Green (RoHS & no Sb/Br); Topology: Buck; Vout(Max)(V): 6; Mounting Technology: Surface Mount; Code_JEDEC: MO-187-BA-T; ComponentLink1Description: Datasheet; ComponentLink1URL: http://www.ti.com/general/docs/lit/getliterature.tsp?genericPartNumber=TPS62040&fileType=pdf; ComponentLink2Description: URL Link1; ComponentLink2URL: Samples URL:http://www.ti.com/product/tps62040#samples
footprint DGQ10-1675X1445TP_N (TSSOP, 10-Leads, Body 3x3mm, Pitch 0.5mm, Thermal Pad 1.88x1.57mm, IPC Medium Density)
footprint DGQ10-1675X1445TP_L (TSSOP, 10-Leads, Body 3x3mm, Pitch 0.5mm, Thermal Pad 1.88x1.57mm, IPC High Density)
footprint DGQ10-1675X1445TP_M (TSSOP, 10-Leads, Body 3x3mm, Pitch 0.5mm, Thermal Pad 1.88x1.57mm, IPC Low Density)
pins: 1 EN (in) "Enable. Pulling EN to ground forces the device into shutdown mode. Pulling EN to VI enables the device. EN should not be left floating and must be terminated.", 2 VIN (power) "Supply voltage input", 3 VIN (power) "Supply voltage input", 4 GND (power) "Analog ground", 5 FB (in) "Feedback. Connect an external resistor divider to this pin. If a fixed-output-voltage device is ued, connect FB directly to the output.", 6 MODE (in) "The difference between TPS6202x and TPS62021 is the logic level of the MODE pin. The TPS62021 has an active-low MODE pin. The TPS6202x is forced into fixed-frequency PWM mode by pulling the MODE pin high. Pulling the MODE (See Datasheet)", 7 SW (power) "This is the switch pin of the converter and connected to the drain of the internal power MOSFETs", 8 SW (power) "This is the switch pin of the converter and connected to the drain of the internal power MOSFETs", 9 PGND (power) "Power ground", 10 PGND (power) "Power ground", 11 EP (power) "Exposed Thermal Pad"

## TPS62040DGQRG4
designator U?
Buck Adjustable Regulator with 2.5 to 6 V Input and 0.7 to 6 V Output, -40 to 85 degC, 10-Pin MSOP-PowerPAD (DGQ), Green (RoHS & no Sb/Br); PartNumber: TPS62040DGQRG4; Manufacturer: Texas Instruments; Duty Cycle(Max)(%): 100; Iout(Max)(A): 1.2; Iq(Typ)(mA): 0.018; Rating: Catalog; Regulated Outputs(#): 1; SubFamily: Step-Down Regulator; Switch Current Limit(Typ)(A): 2; Vin(Max)(V): 6; Vin(Min)(V): 2.5; Vout(Min)(V): 0.7; DatasheetVersion: SLVS463B; PackageVersion: revF, Nov-2011; PackageReference: DGQ10-1675X1445TP; PackageDescription: 10-Pin PowerPAD Plastic Small Outline 0.5 mm Pitch, Exposed Pad; Supplier 1: Digi-Key; Supplier Part Number 1: TPS62040DGQRG4-ND; Supplier 2: Newark; Supplier Part Number 2: 65J6917; Supplier 3: Mouser; Supplier Part Number 3: 595-TPS62040DGQRG4; Eco-Plan: Green (RoHS & no Sb/Br); Topology: Buck; Vout(Max)(V): 6; Mounting Technology: Surface Mount; Code_JEDEC: MO-187-BA-T; ComponentLink1Description: Datasheet; ComponentLink1URL: http://www.ti.com/general/docs/lit/getliterature.tsp?genericPartNumber=TPS62040&fileType=pdf; ComponentLink2Description: URL Link1; ComponentLink2URL: Samples URL:http://www.ti.com/product/tps62040#samples
footprint DGQ10-1675X1445TP_N (TSSOP, 10-Leads, Body 3x3mm, Pitch 0.5mm, Thermal Pad 1.88x1.57mm, IPC Medium Density)
footprint DGQ10-1675X1445TP_L (TSSOP, 10-Leads, Body 3x3mm, Pitch 0.5mm, Thermal Pad 1.88x1.57mm, IPC High Density)
footprint DGQ10-1675X1445TP_M (TSSOP, 10-Leads, Body 3x3mm, Pitch 0.5mm, Thermal Pad 1.88x1.57mm, IPC Low Density)
pins: 1 EN (in) "Enable. Pulling EN to ground forces the device into shutdown mode. Pulling EN to VI enables the device. EN should not be left floating and must be terminated.", 2 VIN (power) "Supply voltage input", 3 VIN (power) "Supply voltage input", 4 GND (power) "Analog ground", 5 FB (in) "Feedback. Connect an external resistor divider to this pin. If a fixed-output-voltage device is ued, connect FB directly to the output.", 6 MODE (in) "The difference between TPS6202x and TPS62021 is the logic level of the MODE pin. The TPS62021 has an active-low MODE pin. The TPS6202x is forced into fixed-frequency PWM mode by pulling the MODE pin high. Pulling the MODE (See Datasheet)", 7 SW (power) "This is the switch pin of the converter and connected to the drain of the internal power MOSFETs", 8 SW (power) "This is the switch pin of the converter and connected to the drain of the internal power MOSFETs", 9 PGND (power) "Power ground", 10 PGND (power) "Power ground", 11 EP (power) "Exposed Thermal Pad"

## TPS62040DRCR
designator U?
Buck Adjustable Regulator with 2.5 to 6 V Input and 0.7 to 6 V Output, -40 to 85 degC, 10-Pin SON (DRC), Green (RoHS & no Sb/Br); PartNumber: TPS62040DRCR; Manufacturer: Texas Instruments; Duty Cycle(Max)(%): 100; Iout(Max)(A): 1.2; Iq(Typ)(mA): 0.018; Rating: Catalog; Regulated Outputs(#): 1; SubFamily: Step-Down Regulator; Switch Current Limit(Typ)(A): 2; Vin(Max)(V): 6; Vin(Min)(V): 2.5; Vout(Min)(V): 0.7; DatasheetVersion: SLVS463B; PackageVersion: revL, Sep-2011; PackageReference: DRC10-2400X1650TP; PackageDescription: 10-Pin Plastic Small Outline No-Lead, 3 x 3 x 1 mm Body, 0.5 mm Pitch, Exposed Pad; Supplier 1: Digi-Key; Supplier Part Number 1: 296-15898-2-ND; Supplier 2: Digi-Key; Supplier Part Number 2: 296-15898-1-ND; Supplier 3: Digi-Key; Supplier Part Number 3: 296-15898-6-ND; Supplier 4: Farnell; Supplier Part Number 4: 2144320; Supplier 5: Newark; Supplier Part Number 5: 87H2901; Supplier 6: Mouser; Supplier Part Number 6: 595-TPS62040DRCR; Eco-Plan: Green (RoHS & no Sb/Br); Topology: Buck; Vout(Max)(V): 6; Mounting Technology: Surface Mount; ComponentLink1Description: Datasheet; ComponentLink1URL: http://www.ti.com/general/docs/lit/getliterature.tsp?genericPartNumber=TPS62040&fileType=pdf; ComponentLink2Description: URL Link1; ComponentLink2URL: Samples URL:http://www.ti.com/product/tps62040#samples
footprint DRC10-2400X1650TP (SON, 10-Leads, Body 3x3mm, Pitch 0.5mm, Thermal Pad 2.4x1.65mm, TI Recommended)
pins: 1 EN (in) "Enable. Pulling EN to ground forces the device into shutdown mode. Pulling EN to VI enables the device. EN should not be left floating and must be terminated.", 2 VIN (power) "Supply voltage input", 3 VIN (power) "Supply voltage input", 4 GND (power) "Analog ground", 5 FB (in) "Feedback pin. Connect FB directly to the output if the fixed output voltage version is used. For the adjustable version an external resistor divider is connected to this pin. The internal voltage divider is disabled for the (See Datasheet)", 6 MODE (in) "Pulling the MODE pin high allows the device to be forced into fixed frequency operation. Pulling the MODE pin to low enables the power save mode where the device operates in fixed frequency PWM mode at high load currents and (See Datasheet)", 7 SW (power) "This is the switch pin of the converter and is connected to the drain of the internal power MOSFETs", 8 SW (power) "This is the switch pin of the converter and is connected to the drain of the internal power MOSFETs", 9 PGND (power) "Power ground", 10 PGND (power) "Power ground", 11 EP "Exposed Thermal Pad"

## TPS62040DRCRG4
designator U?
Buck Adjustable Regulator with 2.5 to 6 V Input and 0.7 to 6 V Output, -40 to 85 degC, 10-Pin SON (DRC), Green (RoHS & no Sb/Br); PartNumber: TPS62040DRCRG4; Manufacturer: Texas Instruments; Duty Cycle(Max)(%): 100; Iout(Max)(A): 1.2; Iq(Typ)(mA): 0.018; Rating: Catalog; Regulated Outputs(#): 1; SubFamily: Step-Down Regulator; Switch Current Limit(Typ)(A): 2; Vin(Max)(V): 6; Vin(Min)(V): 2.5; Vout(Min)(V): 0.7; DatasheetVersion: SLVS463B; PackageVersion: revL, Sep-2011; PackageReference: DRC10-2400X1650TP; PackageDescription: 10-Pin Plastic Small Outline No-Lead, 3 x 3 x 1 mm Body, 0.5 mm Pitch, Exposed Pad; Supplier 1: Digi-Key; Supplier Part Number 1: TPS62040DRCRG4-ND; Supplier 2: Newark; Supplier Part Number 2: 24K6035; Supplier 3: Mouser; Supplier Part Number 3: 595-TPS62040DRCRG4; Eco-Plan: Green (RoHS & no Sb/Br); Topology: Buck; Vout(Max)(V): 6; Mounting Technology: Surface Mount; ComponentLink1Description: Datasheet; ComponentLink1URL: http://www.ti.com/general/docs/lit/getliterature.tsp?genericPartNumber=TPS62040&fileType=pdf; ComponentLink2Description: URL Link1; ComponentLink2URL: Samples URL:http://www.ti.com/product/tps54611#samples
footprint DRC10-2400X1650TP (SON, 10-Leads, Body 3x3mm, Pitch 0.5mm, Thermal Pad 2.4x1.65mm, TI Recommended)
pins: 1 EN (in) "Enable. Pulling EN to ground forces the device into shutdown mode. Pulling EN to VI enables the device. EN should not be left floating and must be terminated.", 2 VIN (power) "Supply voltage input", 3 VIN (power) "Supply voltage input", 4 GND (power) "Analog ground", 5 FB (in) "Feedback pin. Connect FB directly to the output if the fixed output voltage version is used. For the adjustable version an external resistor divider is connected to this pin. The internal voltage divider is disabled for the (See Datasheet)", 6 MODE (in) "Pulling the MODE pin high allows the device to be forced into fixed frequency operation. Pulling the MODE pin to low enables the power save mode where the device operates in fixed frequency PWM mode at high load currents and (See Datasheet)", 7 SW (power) "This is the switch pin of the converter and is connected to the drain of the internal power MOSFETs", 8 SW (power) "This is the switch pin of the converter and is connected to the drain of the internal power MOSFETs", 9 PGND (power) "Power ground", 10 PGND (power) "Power ground", 11 EP "Exposed Thermal Pad"